# EAGLE library part RBOT_RJ45 (library rbot-rj45)
CORCOM Modular RJ Jacks No Shield Source: www.tycoelectronics.com .. ENG_DS_1654001_1099_RJ_L_0507.pdf
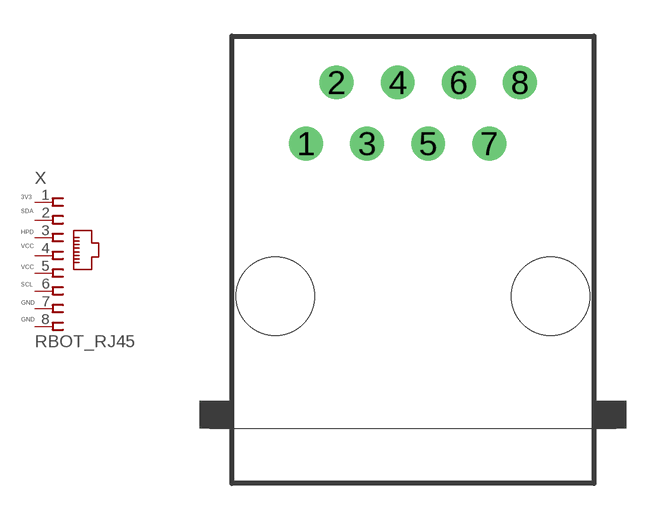
[diagram p0: symbol with the pads of RBOT-RJ45-NO-SHIELD; footprint RBOT-RJ45-NO-SHIELD]

Designator prefix X

## RBOT_RJ45-8X (MPN: RJ45-8X; OC_FARNELL: unknown; OC_NEWARK: 16R6101)  [RBOT-RJ45-NO-SHIELD]
1  1
2  2  pwr
3  3  pwr
4  4
5  5
6  6
7  7
8  8  pwr

## Footprint RBOT-RJ45-NO-SHIELD (pad centres in mm)
RJ45 Low Profile No Shield For all RJ45 N and Z Series Models Source: www.tycoelectronics.com .. ENG_DS_1654001_1099_RJ_L_0507.pdf
drill 0.9 pad 1.4: 1 -4.445,6.35; 2 -3.175,8.89; 3 -1.905,6.35; 4 -0.635,8.89; 5 0.635,6.35; 6 1.905,8.89; 7 3.175,6.35; 8 4.445,8.89
hole 3.251 at -5.715,0
hole 3.251 at 5.715,0